# Altium integrated library Custom.IntLib: 1 symbol
Pins are listed as number, name and electrical type; pins without a type are passive.

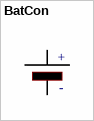
[diagram p0: symbol BatCon]

## BatCon
designator BT?  (value not drawn)
MVI Battery; System: Connector
footprint MVI Battery Pads
footprint MVI battery pads 2
footprint MVI battery pads 3
footprint MVI BATTERY PADS 4
footprint MVI BATTERY PADS 5
footprint MVI BATTERY PADS 6
pins: 1, 2
text: +; -